# Altium integrated library LIB2013.IntLib: 13 symbols
Pins are listed as number, name and electrical type; pins without a type are passive.

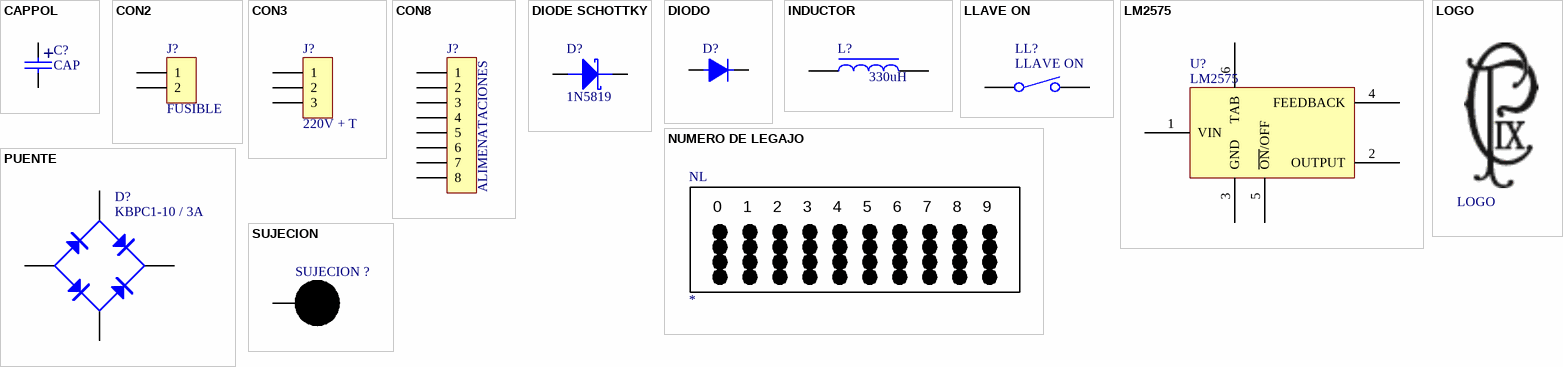
[diagram p0: symbols CAPPOL to SUJECION]

## CAPPOL
designator C?, comment CAP
footprint CAP300/150
footprint CAP400/200
pins: 1, 2
text: +

## CON2
designator J?, comment FUSIBLE
footprint CONECTOR PASO 0.156" 2 PINES
pins: 1, 2

## CON3
designator J?, comment 220V + T
footprint CONECTOR PASO 0.156" 3 PINES
pins: 1, 2, 3

## CON8
designator J?, comment ALIMENATACIONES
footprint SIPPOL8
pins: 1, 2, 3, 4, 5, 6, 7, 8

## DIODE SCHOTTKY
designator D?, comment 1N5819
footprint DO-41
pins: A, K

## DIODO
designator D?
footprint DO-41 (Footprint not found)
pins: A, K

## INDUCTOR
designator L?, comment 330uH
footprint INDUCTOR
pins: 1, 2

## LLAVE ON
designator LL?
footprint CONECTOR PASO 0.156" 2 PINES
pins: 1, 2

## LM2575
designator U?
SIMPLE SWITCHER® 1A Step-Down Voltage Regulator
footprint TO-220_5 H (Footprint not found)
pins: 1 VIN, 2 OUTPUT, 3 GND, 4 FEEDBACK, 5 ~{ON}/OFF, 6 TAB

## LOGO
designator ?
footprint LOGO
footprint LOGO SILK

## NUMERO DE LEGAJO
designator NL
footprint NUMERO DE LEGAJO
text: 0; 1; 2; 3; 4; 5; 6; 7; 8; 9

## PUENTE
designator D?, comment KBPC1-10 / 3A
footprint W10M
pins: 1 V+, 2 AC, 3 V-, 4 AC

## SUJECION
designator SUJECION ?
footprint SUJECION (5.00MM - 3.50MM)
pins: 1